# Altium schematic symbol library BJT.SchLib: 3 symbols
Pins are listed as number, name and electrical type; pins without a type are passive.

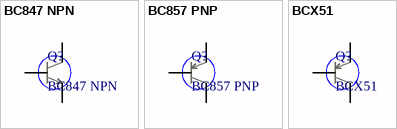
[diagram p0: symbols BC847 NPN to BCX51]

## BC847 NPN
designator Q?
Complement: BC857 PNP
footprint LC-SOT-23(SOT-23-3)
pins: 1 B, 2 E, 3 C

## BC857 PNP
designator Q?
Complement: BC847 NPN
footprint LC-SOT-23(SOT-23-3)
pins: 1 B, 2 E, 3 C

## BCX51
designator Q?
BCX51 1A 45V 2W PNP; Complement: BC847 NPN
footprint LC-SOT-89(SOT-89-3)
pins: 1 B, 2 C, 3 E